# EAGLE library part MA09 (library PTS_Board_Lib)
10-PIN HEADER, pin 10 keyed
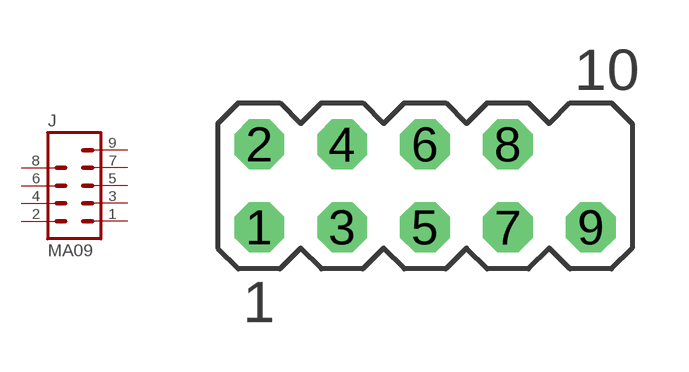
[diagram p5: symbol with the pads of MA09; footprint MA09]

Designator prefix J

## MA09 (OC_FARNELL: unknown; OC_NEWARK: unknown)  [MA09]
1  1  pas
2  2  pas
3  3  pas
4  4  pas
5  5  pas
6  6  pas
7  7  pas
8  8  pas
9  9  pas

## Footprint MA09 (pad centres in mm)
PIN HEADER
drill 1.016 octagon: 1 -5.08,-1.27; 2 -5.08,1.27; 3 -2.54,-1.27; 4 -2.54,1.27; 5 0,-1.27; 6 0,1.27; 7 2.54,-1.27; 8 2.54,1.27; 9 5.08,-1.27